# EAGLE library part CONN_USBC_24P (library GPLIB_CONN)
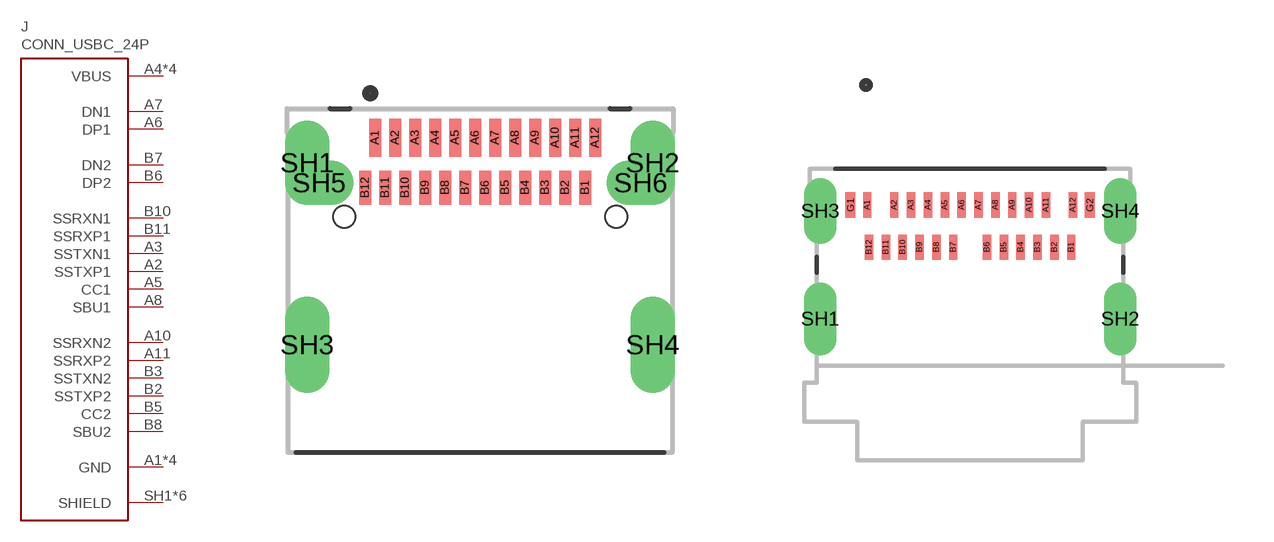
[diagram p30: symbol with the pads of CONN_USBC_24P_TYPE-C24PQT143; footprints CONN_USBC_24P_TYPE-C24PQT143, CONN_USBC_TE_2305018-2]

Designator prefix J

## CONN_USBC_24P_TYPE-C24PQT143  [CONN_USBC_24P_TYPE-C24PQT143]
A1  GND  pwr
A2  SSTXP1
A3  SSTXN1
A4  VBUS  pwr
A5  CC1
A6  DP1
A7  DN1
A8  SBU1
A9  VBUS  pwr
A10  SSRXN2
A11  SSRXP2
A12  GND  pwr
B1  GND  pwr
B2  SSTXP2
B3  SSTXN2
B4  VBUS  pwr
B5  CC2
B6  DP2
B7  DN2
B8  SBU2
B9  VBUS  pwr
B10  SSRXN1
B11  SSRXP1
B12  GND  pwr
SH1  SHIELD  pwr
SH2  SHIELD  pwr
SH3  SHIELD  pwr
SH4  SHIELD  pwr
SH5  SHIELD  pwr
SH6  SHIELD  pwr

## CONN_USBC_24P_TE_2305018-2  [CONN_USBC_TE_2305018-2]
A1  GND  pwr
A2  SSTXP1
A3  SSTXN1
A4  VBUS  pwr
A5  CC1
A6  DP1
A7  DN1
A8  SBU1
A9  VBUS  pwr
A10  SSRXN2
A11  SSRXP2
A12  GND  pwr
B1  GND  pwr
B2  SSTXP2
B3  SSTXN2
B4  VBUS  pwr
B5  CC2
B6  DP2
B7  DN2
B8  SBU2
B9  VBUS  pwr
B10  SSRXN1
B11  SSRXP1
B12  GND  pwr
G1  GND  pwr
G2  GND  pwr
SH1  SHIELD  pwr
SH2  SHIELD  pwr
SH3  SHIELD  pwr
SH4  SHIELD  pwr

## CONN_USBC_24P_UJ31-CH-G2-SMT-TR  [CONN_USBC_CUI_UJ31-CH-G2-SMT-TR]
A1  GND  pwr
A2  SSTXP1
A3  SSTXN1
A4  VBUS  pwr
A5  CC1
A6  DP1
A7  DN1
A8  SBU1
A9  VBUS  pwr
A10  SSRXN2
A11  SSRXP2
A12  GND  pwr
B1  GND  pwr
B2  SSTXP2
B3  SSTXN2
B4  VBUS  pwr
B5  CC2
B6  DP2
B7  DN2
B8  SBU2
B9  VBUS  pwr
B10  SSRXN1
B11  SSRXP1
B12  GND  pwr
SH1  SHIELD  pwr
SH2  SHIELD  pwr
SH3  SHIELD  pwr
SH4  SHIELD  pwr

## Footprint CONN_USBC_24P_TYPE-C24PQT143 (pad centres in mm)
smd 0.3 x 0.95: A1 -2.625,2.438; A2 -2.125,2.438; A3 -1.625,2.438; A4 -1.125,2.438; A5 -0.625,2.438; A6 -0.125,2.438; A7 0.375,2.438; A8 0.875,2.438; A9 1.375,2.438; A10 1.875,2.438; A11 2.375,2.438; A12 2.875,2.438
smd 0.3 x 0.85: B1 2.625,1.188; B2 2.125,1.188; B3 1.625,1.188; B4 1.125,1.188; B5 0.625,1.188; B6 0.125,1.188; B7 -0.375,1.188; B8 -0.875,1.188; B9 -1.375,1.188; B10 -1.875,1.188; B11 -2.375,1.188; B12 -2.875,1.188
drill 0.6 slot 1.6 rotated 90: SH1 -4.32,1.813; SH2 4.32,1.813
drill 0.6 slot 1.9 rotated 90: SH3 -4.32,-2.737; SH4 4.32,-2.737
drill 0.6 slot 1.2: SH5 -4.02,1.313; SH6 4.02,1.313
hole 0.55 at -3.4,0.463
hole 0.55 at 3.4,0.463

## Footprint CONN_USBC_TE_2305018-2 (pad centres in mm)
smd 0.25 x 0.75: A1 -3.05,1.688; A2 -2.25,1.688; A3 -1.75,1.688; A4 -1.25,1.688; A5 -0.75,1.688; A6 -0.25,1.688; A7 0.25,1.688; A8 0.75,1.688; A9 1.25,1.688; A10 1.75,1.688; A11 2.25,1.688; A12 3.05,1.688; B1 3,0.438; B2 2.5,0.438; B3 2,0.438; B4 1.5,0.438; B5 1,0.438; B6 0.5,0.438; B7 -0.5,0.438; B8 -1,0.438; B9 -1.5,0.438; B10 -2,0.438; B11 -2.5,0.438; B12 -3,0.438
smd 0.3 x 0.75: G1 -3.55,1.688; G2 3.55,1.688
drill 0.45 pad 0.85 slot 1.65 rotated 90: SH1 -4.45,-1.687; SH2 4.45,-1.687
drill 0.45 pad 0.85 slot 1.45 rotated 90: SH3 -4.45,1.513; SH4 4.45,1.513

## Footprint CONN_USBC_CUI_UJ31-CH-G2-SMT-TR (pad centres in mm)
smd 0.35 x 0.7: A1 -2.75,2.955; A2 -2.25,2.955; A3 -1.75,2.955; A4 -1.25,2.955; A5 -0.75,2.955; A6 -0.25,2.955; A7 0.25,2.955; A8 0.75,2.955; A9 1.25,2.955; A10 1.75,2.955; A11 2.25,2.955; A12 2.75,2.955
drill 0.5 pad 0.7 slot 1.1: B1 3.05,1.845; B12 -3.05,1.845
drill 0.4 pad 0.65: B2 2.4,1.145; B3 1.6,1.145; B4 1.2,1.845; B5 0.8,1.145; B6 0.4,1.845; B7 -0.4,1.845; B8 -0.8,1.145; B9 -1.2,1.845; B10 -1.6,1.145; B11 -2.4,1.145
drill 0.65 pad 0.65 slot 0.95: P$2 3.725,1.145
drill 0.5 pad 1 slot 1.1 rotated 90: SH1 -4.5,2.645; SH2 4.5,2.645
drill 0.5 pad 1 slot 1.3 rotated 90: SH3 -4.5,-2.955; SH4 4.5,-2.955
hole 0.7 at -3.725,1.145